# EAGLE library part MCP3008 (library mylib2)
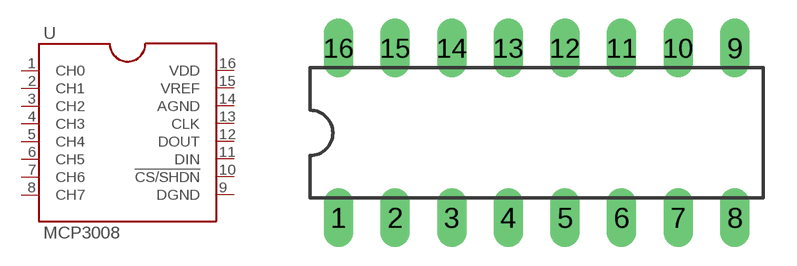
[diagram p15: symbol with the pads of MCP3008; footprint MCP3008]

Designator prefix -

## MCP3008  [MCP3008]
1  CH0  pas
2  CH1  pas
3  CH2  pas
4  CH3  pas
5  CH4  pas
6  CH5  pas
7  CH6  pas
8  CH7  pas
9  DGND  pas
10  !CS/SHDN  pas
11  DIN  pas
12  DOUT  pas
13  CLK  pas
14  AGND  pas
15  VREF  pas
16  VDD  pas

## Footprint MCP3008 (pad centres in mm)
drill 0.813 long: 1 -8.89,-3.81; 2 -6.35,-3.81; 3 -3.81,-3.81; 4 -1.27,-3.81; 5 1.27,-3.81; 6 3.81,-3.81; 7 6.35,-3.81; 8 8.89,-3.81; 9 8.89,3.81; 10 6.35,3.81; 11 3.81,3.81; 12 1.27,3.81; 13 -1.27,3.81; 14 -3.81,3.81; 15 -6.35,3.81; 16 -8.89,3.81